# EAGLE library part L293DNE (library IC)
IC MTR DRV BIPOLAR 4.5-36V 16DIP Manufacturer's datasheet <http://www.ti.com/general/docs/suppproductinfo.tsp?distId=10&gotoUrl=http%3A%2F%2Fwww.ti.com%2Flit%2Fgpn%2Fl293d>
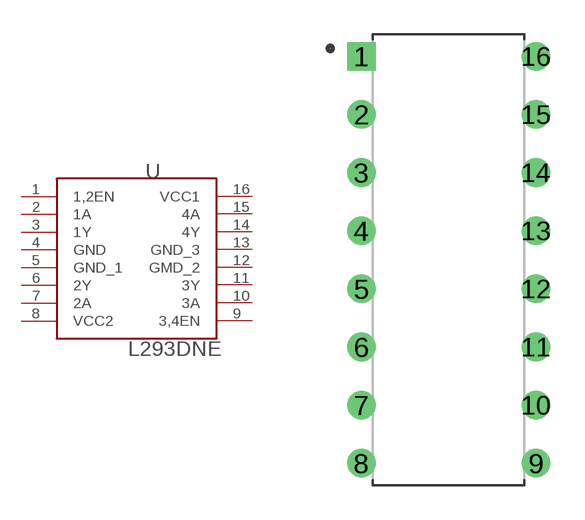
[diagram p13: symbol with the pads of DIP-16_300MIL; footprint DIP-16_300MIL]

Designator prefix U

## L293DNE (CREATED_BY: PCBLayout.com; DIGI-KEY_PART: 296-9518-5-ND; MANUFACTURER: Texas Instruments; MPN: L293DNE; PACKAGE: DIP-16)  [DIP-16_300MIL]
1  1,2EN  in
2  1A  in
3  1Y  out
4  GND  pwr
5  GND_1  pwr
6  2Y  out
7  2A  in
8  VCC2  pwr
9  3,4EN  in
10  3A  in
11  3Y  out
12  GMD_2  pwr
13  GND_3  pwr
14  4Y  out
15  4A  in
16  VCC1  pwr

## Footprint DIP-16_300MIL (pad centres in mm)
DIP, 7.62 mm lead span, 2.54 mm pitch; 16 pin, 19.69 mm L X 6.60 mm W X 5.08 mm H body PCB Libraries Packages
drill 0.74 pad 1.14 square: 1 -3.81,8.89
drill 0.74 pad 1.14: 2 -3.81,6.35; 3 -3.81,3.81; 4 -3.81,1.27; 5 -3.81,-1.27; 6 -3.81,-3.81; 7 -3.81,-6.35; 8 -3.81,-8.89; 9 3.81,-8.89; 10 3.81,-6.35; 11 3.81,-3.81; 12 3.81,-1.27; 13 3.81,1.27; 14 3.81,3.81; 15 3.81,6.35; 16 3.81,8.89